# EAGLE library part TDC-GP21 (library NEON-BLADE-2024)
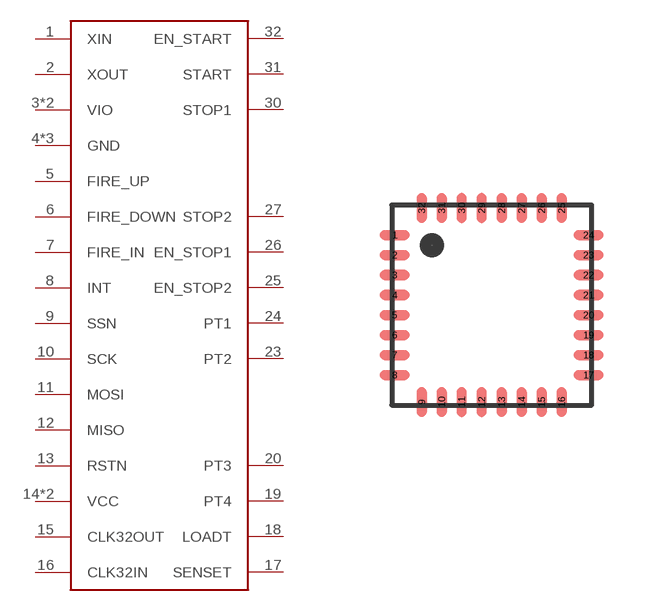
[diagram p46: symbol with the pads of TDC-GP21; footprint TDC-GP21]

Designator prefix -

## TDC-GP21  [TDC-GP21]
1  XIN
2  XOUT
3  VIO
4  GND
5  FIRE_UP
6  FIRE_DOWN
7  FIRE_IN
8  INT
9  SSN
10  SCK
11  MOSI
12  MISO
13  RSTN
14  VCC
15  CLK32OUT
16  CLK32IN
17  SENSET
18  LOADT
19  PT4
20  PT3
21  GND
22  VIO
23  PT2
24  PT1
25  EN_STOP2
26  EN_STOP1
27  STOP2
28  GND
29  VCC
30  STOP1
31  START
32  EN_START

## Footprint TDC-GP21 (pad centres in mm)
smd 0.75 x 0.25: 1 -2.425,1.75; 2 -2.425,1.25; 3 -2.425,0.75; 4 -2.425,0.25; 5 -2.425,-0.25; 6 -2.425,-0.75; 7 -2.425,-1.25; 8 -2.425,-1.75; 17 2.425,-1.75; 18 2.425,-1.25; 19 2.425,-0.75; 20 2.425,-0.25; 21 2.425,0.25; 22 2.425,0.75; 23 2.425,1.25; 24 2.425,1.75
smd 0.25 x 0.75: 9 -1.75,-2.425; 10 -1.25,-2.425; 11 -0.75,-2.425; 12 -0.25,-2.425; 13 0.25,-2.425; 14 0.75,-2.425; 15 1.25,-2.425; 16 1.75,-2.425; 25 1.75,2.425; 26 1.25,2.425; 27 0.75,2.425; 28 0.25,2.425; 29 -0.25,2.425; 30 -0.75,2.425; 31 -1.25,2.425; 32 -1.75,2.425